# EAGLE library part LB1848MC (library Library)
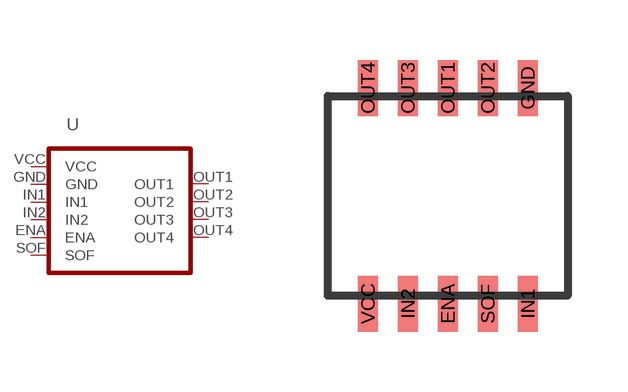
[diagram p5: symbol with the pads of LB1848MC; footprint LB1848MC]

Designator prefix -

## LB1848MC  [LB1848MC]
ENA  ENA
GND  GND
IN1  IN1
IN2  IN2
OUT1  OUT1
OUT2  OUT2
OUT3  OUT3
OUT4  OUT4
SOF  SOF
VCC  VCC

## Footprint LB1848MC (pad centres in mm)
smd 0.5 x 1.4: ENA 0,-2.7; GND 2,2.7; IN1 2,-2.7; IN2 -1,-2.7; OUT1 0,2.7; OUT2 1,2.7; OUT3 -1,2.7; OUT4 -2,2.7; SOF 1,-2.7; VCC -2,-2.7